# Altium footprint library hsbest2.PcbLib: 365 footprints (part 1 of 23)
Each footprint in its own frame and in the unit in brackets; x right, y up, seen from the top. Pads: shape width x height; smd on the part's side, far side on the other; paste and mask are expansions set on the pad; w line width, h text height; cw(c..) or ccw(c..) is an arc to the next point about the centre after c.
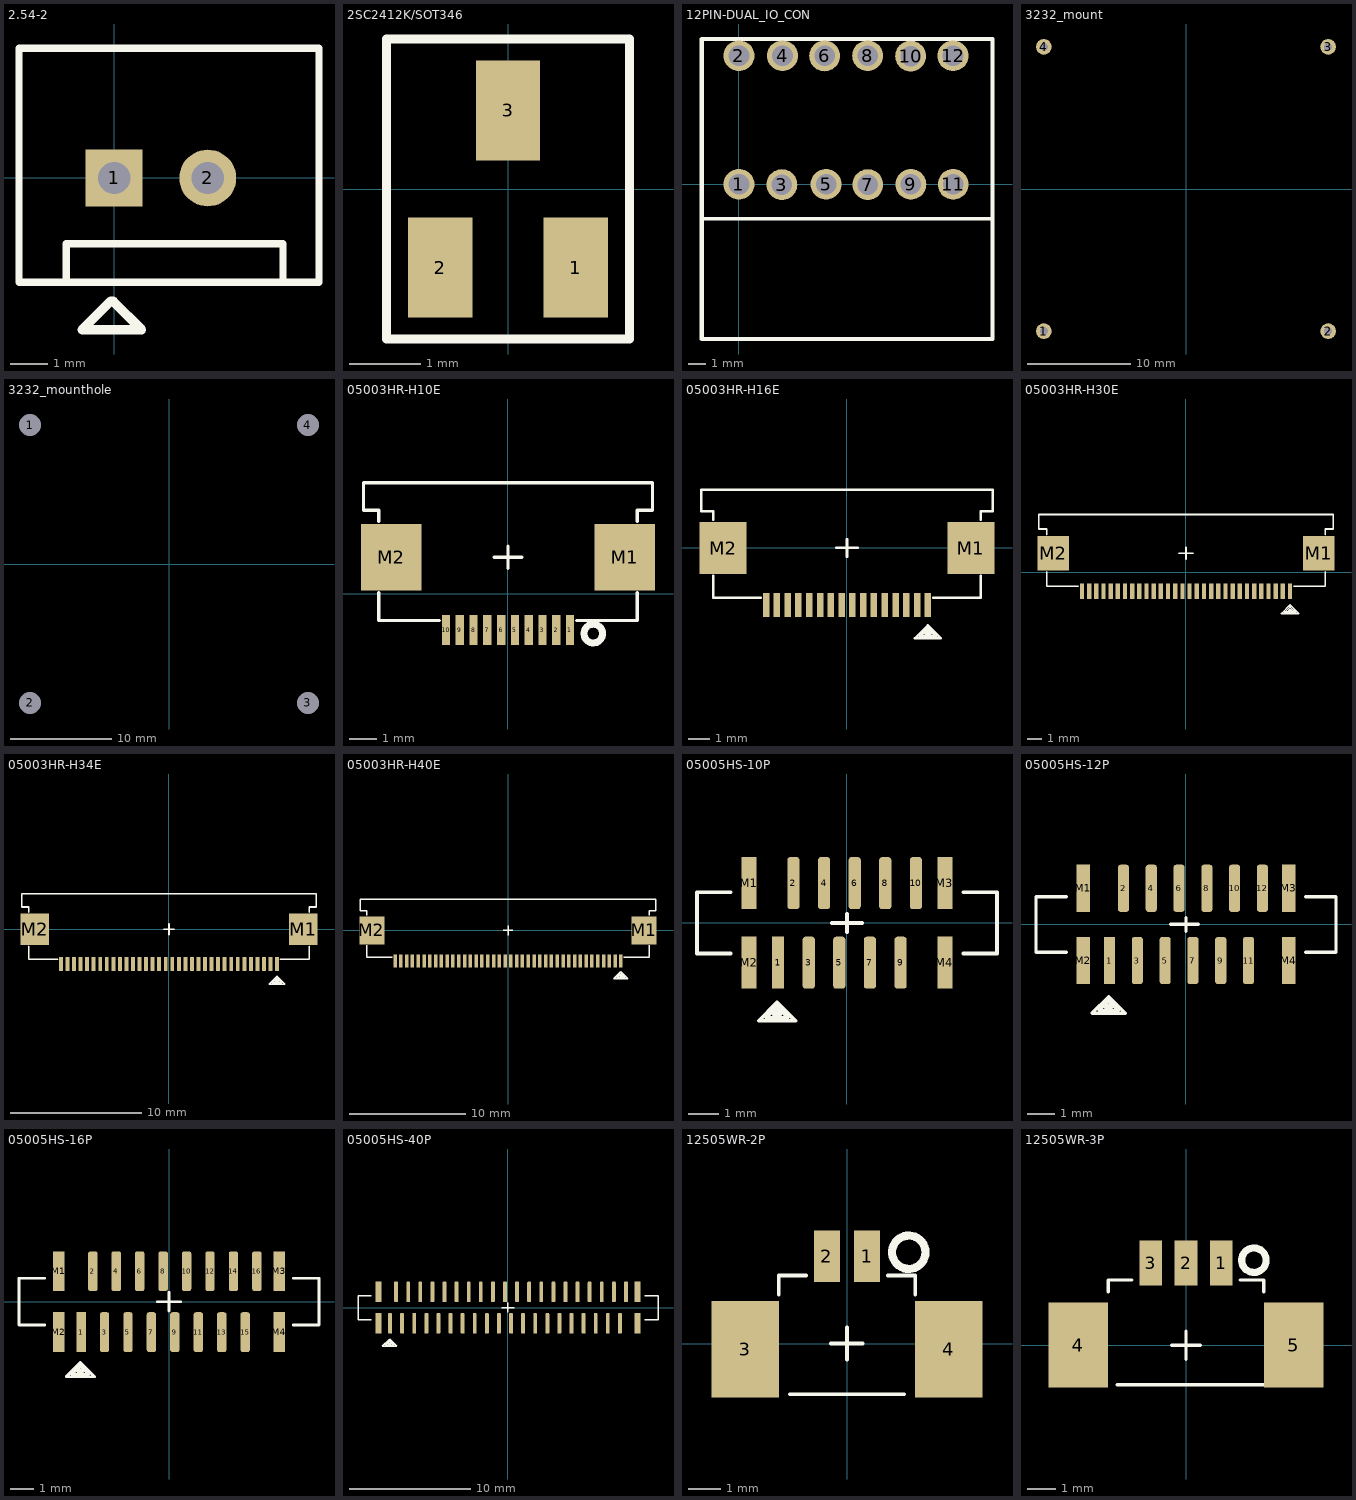
[diagram p0: the footprints below, top view; thin cyan lines are the x and y axes]

## 2.54-2 [mm]
pads (2):
  rect 1.54x1.54 hole 0.88: 1(0.002,0)
  round 1.54 hole 0.88: 2(2.542,0)
Top Overlay:
  lines w0.2: -1.3,-2.771 -1.3,-1.78 4.581,-1.78 4.581,-2.754 ; -2.576,-2.821 5.555,-2.821 5.555,3.513 -2.576,3.513 -2.576,-2.821
  lines w0.254: -0.094,-3.34 -0.864,-4.11 0.744,-4.11 -0.02,-3.345

## 2SC2412K/SOT346 [mm]
pads (3):
  rect 0.9x1.4 smd: 1(0.95,-1.1) 2(-0.95,-1.1) 3(0,1.1)
Top Overlay:
  lines w0.125: -1.7,-2.1 1.7,-2.1 1.7,2.1 -1.7,2.1 -1.7,-2.1

## 12PIN-DUAL_IO_CON [mm]
pads (12):
  rrect100% 1.8x1.8 hole 1.2: 1(0,0) 2(0,7.5) 3(2.507,-0.019) 4(2.54,7.5) 5(5.08,0) 6(4.994,7.487) 7(7.518,-0.019) 8(7.505,7.501) 9(10.032,-0.005) 10(10.014,7.481) 11(12.5,-0.005) 12(12.489,7.496)
Top Overlay:
  lines w0.2: -2.184,-2.024 14.714,-2.024
  lines w0.254: -2.18,-9.029 -2.18,8.476 14.791,8.476 14.791,-9.029 -2.18,-9.029

## 3232_mount [mil]
pads (4):
  round 60 hole 30: 1(-541.34,-541.34) 2(541.34,-541.34) 3(541.34,541.34) 4(-541.34,541.34)

## 3232_mounthole [mm]
pads (4):
  round 1.524 hole 2.2: 1(-13.75,13.75) 2(-13.75,-13.75) 3(13.75,-13.75) 4(13.75,13.75)

## 05003HR-H10E [mm]
pads (12):
  rect 0.3x1.1 smd: 1(2.25,-1.322) 2(1.75,-1.322) 3(1.25,-1.322) 4(0.75,-1.322) 5(0.25,-1.322) 6(-0.25,-1.322) 7(-0.75,-1.322) 8(-1.25,-1.322) 9(-1.75,-1.322) 10(-2.25,-1.322)
  rect 2.184x2.413 smd: M1(4.244,1.322) M2(-4.244,1.322)
Top Overlay:
  circle w0.254: c3.1,-1.45 r0.34
  lines w0.12: -5.25,4.028 -5.25,3.028 -4.7,3.028 -4.7,2.628 ; -5.225,4.028 5.25,4.028 ; -4.7,0.028 -4.7,-0.972 -2.5,-0.972 ; -0.5,1.328 0.5,1.328 ; 0,0.928 0,1.728 ; 2.5,-0.972 4.7,-0.972 4.7,0.028 ; 4.7,2.628 4.7,3.028 ; 4.7,3.028 5.25,3.028 ; 4.7,3.028 5.25,3.028 ; 5.25,3.028 5.25,4.028 ; 5.25,3.028 5.25,4.028

## 05003HR-H16E [mm]
pads (18):
  rect 0.3x1.1 smd: 1(3.75,-2.65) 2(3.25,-2.65) 3(2.75,-2.65) 4(2.25,-2.65) 5(1.75,-2.65) 6(1.25,-2.65) 7(0.75,-2.65) 8(0.25,-2.65) 9(-0.25,-2.65) 10(-0.75,-2.65) 11(-1.25,-2.65) 12(-1.75,-2.65) 13(-2.25,-2.65) 14(-2.75,-2.65) 15(-3.25,-2.65) 16(-3.75,-2.65)
  rect 2.184x2.413 smd: M1(5.744,-0.006) M2(-5.744,-0.006)
Top Overlay:
  lines w0.12: -6.2,-1.3 -6.2,-2.3 -4,-2.3 ; -6.2,1.3 -6.2,1.7 ; -0.5,0 0.5,0 ; 0,-0.4 0,0.4 ; 4,-2.3 6.2,-2.3 6.2,-1.3 ; 6.2,1.3 6.2,1.7 ; -6.75,1.7 -6.75,2.7 ; -6.75,1.7 -6.2,1.7 ; -6.75,1.7 -6.75,2.7 ; -6.75,1.7 -6.2,1.7 ; -6.75,2.7 6.75,2.7 ; 6.2,1.7 6.75,1.7 ; 6.2,1.7 6.75,1.7 ; 6.75,1.7 6.75,2.7 ; 6.75,1.7 6.75,2.7 ; 3.15,-4.19 4.35,-4.19 3.75,-3.59 3.15,-4.19 ; 3.4,-4.09 4.1,-4.09 3.75,-3.74 3.4,-4.09 ; 3.65,-3.99 3.85,-3.99 3.75,-3.89 3.65,-3.99

## 05003HR-H30E [mm]
pads (32):
  rect 0.3x1.1 smd: 1(7.25,-1.322) 2(6.75,-1.322) 3(6.25,-1.322) 4(5.75,-1.322) 5(5.25,-1.322) 6(4.75,-1.322) 7(4.25,-1.322) 8(3.75,-1.322) 9(3.25,-1.322) 10(2.75,-1.322) 11(2.25,-1.322) 12(1.75,-1.322) 13(1.25,-1.322) 14(0.75,-1.322) 15(0.25,-1.322) 16(-0.25,-1.322) 17(-0.75,-1.322) 18(-1.25,-1.322) 19(-1.75,-1.322) 20(-2.25,-1.322) 21(-2.75,-1.322) 22(-3.25,-1.322) 23(-3.75,-1.322) 24(-4.25,-1.322) 25(-4.75,-1.322) 26(-5.25,-1.322) 27(-5.75,-1.322) 28(-6.25,-1.322) 29(-6.75,-1.322) 30(-7.25,-1.322)
  rect 2.184x2.413 smd: M1(9.244,1.322) M2(-9.244,1.322)
Top Overlay:
  lines w0.12: -10.25,4.028 -10.25,3.028 ; -9.7,0.028 -9.7,-0.972 -7.5,-0.972 ; -9.7,2.628 -9.7,3.028 ; -0.5,1.328 0.5,1.328 ; 0,0.928 0,1.728 ; 7.5,-0.972 9.7,-0.972 9.7,0.028 ; 9.7,2.628 9.7,3.028 ; -10.25,3.028 -10.25,4.01 -10.232,4.028 10.25,4.028 ; -10.25,3.028 -9.7,3.028 ; -10.25,3.028 -9.7,3.028 ; 9.7,3.028 10.25,3.028 ; 9.7,3.028 10.25,3.028 ; 10.25,3.028 10.25,4.028 ; 10.25,3.028 10.25,4.028 ; 6.65,-2.862 7.25,-2.262 7.85,-2.862 6.65,-2.862 ; 6.9,-2.762 7.25,-2.412 7.6,-2.762 6.9,-2.762 ; 7.15,-2.662 7.25,-2.562 7.35,-2.662 7.15,-2.662

## 05003HR-H34E [mm]
pads (36):
  rect 0.3x1.1 smd: 1(8.25,-2.65) 2(7.75,-2.65) 3(7.25,-2.65) 4(6.75,-2.65) 5(6.25,-2.65) 6(5.75,-2.65) 7(5.25,-2.65) 8(4.75,-2.65) 9(4.25,-2.65) 10(3.75,-2.65) 11(3.25,-2.65) 12(2.75,-2.65) 13(2.25,-2.65) 14(1.75,-2.65) 15(1.25,-2.65) 16(0.75,-2.65) 17(0.25,-2.65) 18(-0.25,-2.65) 19(-0.75,-2.65) 20(-1.25,-2.65) 21(-1.75,-2.65) 22(-2.25,-2.65) 23(-2.75,-2.65) 24(-3.25,-2.65) 25(-3.75,-2.65) 26(-4.25,-2.65) 27(-4.75,-2.65) 28(-5.25,-2.65) 29(-5.75,-2.65) 30(-6.25,-2.65) 31(-6.75,-2.65) 32(-7.25,-2.65) 33(-7.75,-2.65) 34(-8.25,-2.65)
  rect 2.184x2.413 smd: M1(10.244,-0.006) M2(-10.244,-0.006)
Top Overlay:
  lines w0.12: -10.7,-1.3 -10.7,-2.3 -8.5,-2.3 ; -10.7,1.3 -10.7,1.7 ; -0.4,0 0.4,0 ; 0,-0.4 0,0.4 ; 8.5,-2.3 10.7,-2.3 10.7,-1.3 ; 10.7,1.3 10.7,1.7 ; -11.25,1.7 -10.7,1.7 ; -11.25,1.7 -11.25,2.7 ; -11.25,1.7 -10.7,1.7 ; -11.25,1.7 -11.25,2.7 ; -11.25,2.7 11.25,2.7 ; 10.7,1.7 11.25,1.7 ; 10.7,1.7 11.25,1.7 ; 11.25,1.7 11.25,2.7 ; 11.25,1.7 11.25,2.7 ; 7.65,-4.19 8.25,-3.59 8.85,-4.19 7.65,-4.19 ; 7.9,-4.09 8.25,-3.74 8.6,-4.09 7.9,-4.09 ; 8.15,-3.99 8.25,-3.89 8.35,-3.99 8.15,-3.99

## 05003HR-H40E [mm]
pads (42):
  rect 0.3x1.1 smd: 1(9.75,-2.65) 2(9.25,-2.65) 3(8.75,-2.65) 4(8.25,-2.65) 5(7.75,-2.65) 6(7.25,-2.65) 7(6.75,-2.65) 8(6.25,-2.65) 9(5.75,-2.65) 10(5.25,-2.65) 11(4.75,-2.65) 12(4.25,-2.65) 13(3.75,-2.65) 14(3.25,-2.65) 15(2.75,-2.65) 16(2.25,-2.65) 17(1.75,-2.65) 18(1.25,-2.65) 19(0.75,-2.65) 20(0.25,-2.65) 21(-0.25,-2.65) 22(-0.75,-2.65) 23(-1.25,-2.65) 24(-1.75,-2.65) 25(-2.25,-2.65) 26(-2.75,-2.65) 27(-3.25,-2.65) 28(-3.75,-2.65) 29(-4.25,-2.65) 30(-4.75,-2.65) 31(-5.25,-2.65) 32(-5.75,-2.65) 33(-6.25,-2.65) 34(-6.75,-2.65) 35(-7.25,-2.65) 36(-7.75,-2.65) 37(-8.25,-2.65) 38(-8.75,-2.65) 39(-9.25,-2.65) 40(-9.75,-2.65)
  rect 2.184x2.413 smd: M1(11.744,-0.006) M2(-11.744,-0.006)
Top Overlay:
  lines w0.12: -12.2,-1.3 -12.2,-2.3 -10,-2.3 ; -12.2,1.3 -12.2,1.7 ; -0.4,0 0.4,0 ; 0,-0.4 0,0.4 ; 10,-2.3 12.2,-2.3 12.2,-1.3 ; 12.2,1.3 12.2,1.7 ; -12.75,1.7 -12.75,2.7 ; -12.75,1.7 -12.2,1.7 ; -12.75,1.7 -12.75,2.7 ; -12.75,1.7 -12.2,1.7 ; -12.75,2.7 12.75,2.7 ; -12.75,2.7 12.75,2.7 ; 12.2,1.7 12.75,1.7 ; 12.2,1.7 12.75,1.7 ; 12.75,1.7 12.75,2.7 ; 12.75,1.7 12.75,2.7 ; 9.15,-4.19 9.75,-3.59 10.35,-4.19 9.15,-4.19 ; 9.4,-4.09 9.75,-3.74 10.1,-4.09 9.4,-4.09 ; 9.65,-3.99 9.75,-3.89 9.85,-3.99 9.65,-3.99

## 05005HS-10P [mm]
pads (14):
  rect 0.4x1.7 smd: 1(-2.25,-1.3)
  rrect50% 0.4x1.7 smd: 2(-1.75,1.3) 3(-1.25,-1.3) 4(-0.75,1.3) 5(-0.25,-1.3) 6(0.25,1.3) 7(0.75,-1.3) 8(1.25,1.3) 9(1.75,-1.3) 10(2.25,1.3)
  rect 0.5x1.7 smd: M1(-3.2,1.3) M2(-3.2,-1.3) M3(3.2,1.3) M4(3.2,-1.3)
Top Overlay:
  lines w0.12: -3.8,-1 -4.9,-1 -4.9,1 -3.8,1 ; -0.5,0 0.5,0 ; 0,-0.3 0,0.3 ; 3.8,-1 4.9,-1 4.9,1 3.8,1 ; -2.884,-3.2 -2.284,-2.6 -1.684,-3.2 -2.884,-3.2 ; -2.634,-3.1 -2.284,-2.75 -1.934,-3.1 -2.634,-3.1 ; -2.384,-3 -2.284,-2.9 -2.184,-3 -2.384,-3

## 05005HS-12P [mm]
pads (16):
  rect 0.4x1.7 smd: 1(-2.75,-1.3)
  rrect50% 0.4x1.7 smd: 2(-2.25,1.3) 3(-1.75,-1.3) 4(-1.25,1.3) 5(-0.75,-1.3) 6(-0.25,1.3) 7(0.25,-1.3) 8(0.75,1.3) 9(1.25,-1.3) 10(1.75,1.3) 11(2.25,-1.3) 12(2.75,1.3)
  rect 0.5x1.7 smd: M1(-3.7,1.3) M2(-3.7,-1.3) M3(3.7,1.3) M4(3.7,-1.3)
Top Overlay:
  lines w0.12: -4.3,-1 -5.4,-1 -5.4,1 -4.3,1 ; -0.55,0 0.45,0 ; 0,-0.25 0,0.25 ; 4.3,-1 5.4,-1 5.4,1 4.3,1 ; -3.384,-3.2 -2.784,-2.6 -2.184,-3.2 -3.384,-3.2 ; -3.134,-3.1 -2.784,-2.75 -2.434,-3.1 -3.134,-3.1 ; -2.884,-3 -2.784,-2.9 -2.684,-3 -2.884,-3

## 05005HS-16P [mm]
pads (20):
  rect 0.4x1.7 smd: 1(-3.75,-1.3)
  rrect50% 0.4x1.7 smd: 2(-3.25,1.3) 3(-2.75,-1.3) 4(-2.25,1.3) 5(-1.75,-1.3) 6(-1.25,1.3) 7(-0.75,-1.3) 8(-0.25,1.3) 9(0.25,-1.3) 10(0.75,1.3) 11(1.25,-1.3) 12(1.75,1.3) 13(2.25,-1.3) 14(2.75,1.3) 15(3.25,-1.3) 16(3.75,1.3)
  rect 0.5x1.7 smd: M1(-4.7,1.3) M2(-4.7,-1.3) M3(4.7,1.3) M4(4.7,-1.3)
Top Overlay:
  lines w0.12: -5.3,-1 -6.4,-1 -6.4,1 -5.3,1 ; -0.5,0 0.5,0 ; 0,-0.4 0,0.4 ; 5.3,-1 6.4,-1 6.4,1 5.3,1 ; -4.384,-3.2 -3.784,-2.6 -3.184,-3.2 -4.384,-3.2 ; -4.134,-3.1 -3.784,-2.75 -3.434,-3.1 -4.134,-3.1 ; -3.884,-3 -3.784,-2.9 -3.684,-3 -3.884,-3

## 05005HS-40P [mm]
pads (44):
  rrect50% 0.32x1.7 smd: 1(-9.75,-1.3) 2(-9.25,1.3) 3(-8.75,-1.3) 4(-8.25,1.3) 5(-7.75,-1.3) 6(-7.25,1.3) 7(-6.75,-1.3) 8(-6.25,1.3) 9(-5.75,-1.3) 10(-5.25,1.3) 11(-4.75,-1.3) 12(-4.25,1.3) 13(-3.75,-1.3) 14(-3.25,1.3) 15(-2.75,-1.3) 16(-2.25,1.3) 17(-1.75,-1.3) 18(-1.25,1.3) 19(-0.75,-1.3) 20(-0.25,1.3) 21(0.25,-1.3) 22(0.75,1.3) 23(1.25,-1.3) 24(1.75,1.3) 25(2.25,-1.3) 26(2.75,1.3) 27(3.25,-1.3) 28(3.75,1.3) 29(4.25,-1.3) 30(4.75,1.3) 31(5.25,-1.3) 32(5.75,1.3) 33(6.25,-1.3) 34(6.75,1.3) 35(7.25,-1.3) 36(7.75,1.3) 37(8.25,-1.3) 38(8.75,1.3) 39(9.25,-1.3) 40(9.75,1.3)
  rect 0.5x1.7 smd: M1(-10.7,1.3) M2(-10.7,-1.3) M3(10.7,1.3) M4(10.7,-1.3)
Top Overlay:
  lines w0.12: -11.3,-1 -12.4,-1 -12.4,1 -11.3,1 ; -0.5,0 0.5,0 ; 0,-0.4 0,0.4 ; 11.3,-1 12.4,-1 12.4,1 11.3,1 ; -10.384,-3.2 -9.784,-2.6 -9.184,-3.2 -10.384,-3.2 ; -10.134,-3.1 -9.784,-2.75 -9.434,-3.1 -10.134,-3.1 ; -9.884,-3 -9.784,-2.9 -9.684,-3 -9.884,-3

## 12505WR-2P [mm]
pads (4):
  rect 0.8x1.6 smd: 1(0.625,2.725) 2(-0.625,2.725)
  rect 2.1x3 smd: 3(-3.175,-0.175) 4(3.175,-0.175)
Top Overlay:
  circle w0.254: c1.925,2.85 r0.52
  lines w0.12: -2.125,1.529 -2.125,2.125 -1.27,2.125 ; -1.778,-1.575 1.778,-1.575 ; -0.508,0.005 0.492,0.005 ; 0,-0.503 0,0.513 ; 1.27,2.125 2.125,2.125 2.125,1.529

## 12505WR-3P [mm]
pads (5):
  rect 0.8x1.6 smd: 1(1.25,2.9) 2(0,2.9) 3(-1.25,2.9)
  rect 2.1x3 smd: 4(-3.8,0) 5(3.8,0)
Top Overlay:
  circle w0.254: c2.4,3 r0.432
  lines w0.12: -2.75,1.884 -2.75,2.3 -1.915,2.3 ; -2.423,-1.4 3.673,-1.4 ; -0.5,0 0.5,0 ; 0,-0.5 0,0.5 ; 1.915,2.3 2.75,2.3 2.75,1.884